# Altium schematic symbol library SW PUSH NO SMD.Schlib: 1 symbol
Pins are listed as number, name and electrical type; pins without a type are passive.

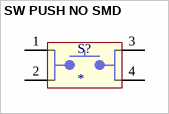
[diagram p0: symbol SW PUSH NO SMD]

## SW PUSH NO SMD
designator S?
Switch Tactile N.O. SPST Round Button Gull Wing 0.05A 12VDC 2.55N SMD T/R
footprint TL3305 (TL3305 SPST-NO)
pins: 1, 2, 3, 4